# EAGLE library part DRV8838DSGT (library DRV8838DSGT)
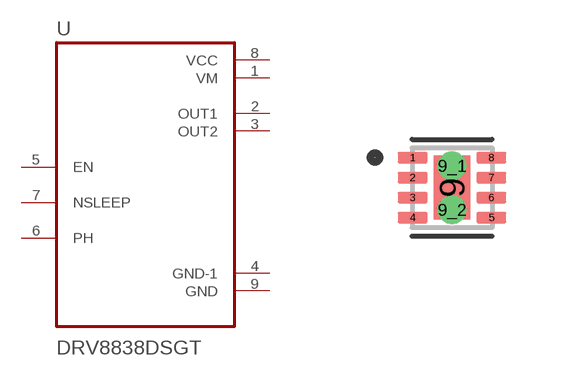
[diagram p0: symbol with the pads of SON50P200X200X80-9N; footprint SON50P200X200X80-9N]

Designator prefix U

## DRV8838DSGT (Description: 11-V, 1.8-A H-bridge motor driver with phase/enable control 8-WSON -40 to 85; Digi-Key_Part_Number: 296-37539-1-ND; MF: Texas Instruments; MP: DRV8838DSGT; Package: WSON-8 Texas Instruments; Purchase-URL: https://pricing.snapeda.com/search/part/DRV8838DSGT/?ref=eda)  [SON50P200X200X80-9N]
1  VM  pwr
2  OUT1  out
3  OUT2  out
4  GND-1  pwr
5  EN
6  PH
7  NSLEEP
8  VCC  pwr
9  GND  pwr

## Footprint SON50P200X200X80-9N (pad centres in mm)
smd 0.74 x 0.28: 1 -0.985,0.75; 2 -0.985,0.25; 3 -0.985,-0.25; 4 -0.985,-0.75; 5 0.985,-0.75; 6 0.985,-0.25; 7 0.985,0.25; 8 0.985,0.75
smd 0.9 x 1.6: 9 0,0
drill 0.2 pad 0.4: 9_1 0,0.55; 9_2 0,-0.55